# Altium footprint library Connector.PcbLib: 159 footprints (part 8 of 10)
Each footprint in its own frame and in the unit in brackets; x right, y up, seen from the top. Pads: shape width x height; smd on the part's side, far side on the other; paste and mask are expansions set on the pad; w line width, h text height; cw(c..) or ccw(c..) is an arc to the next point about the centre after c.
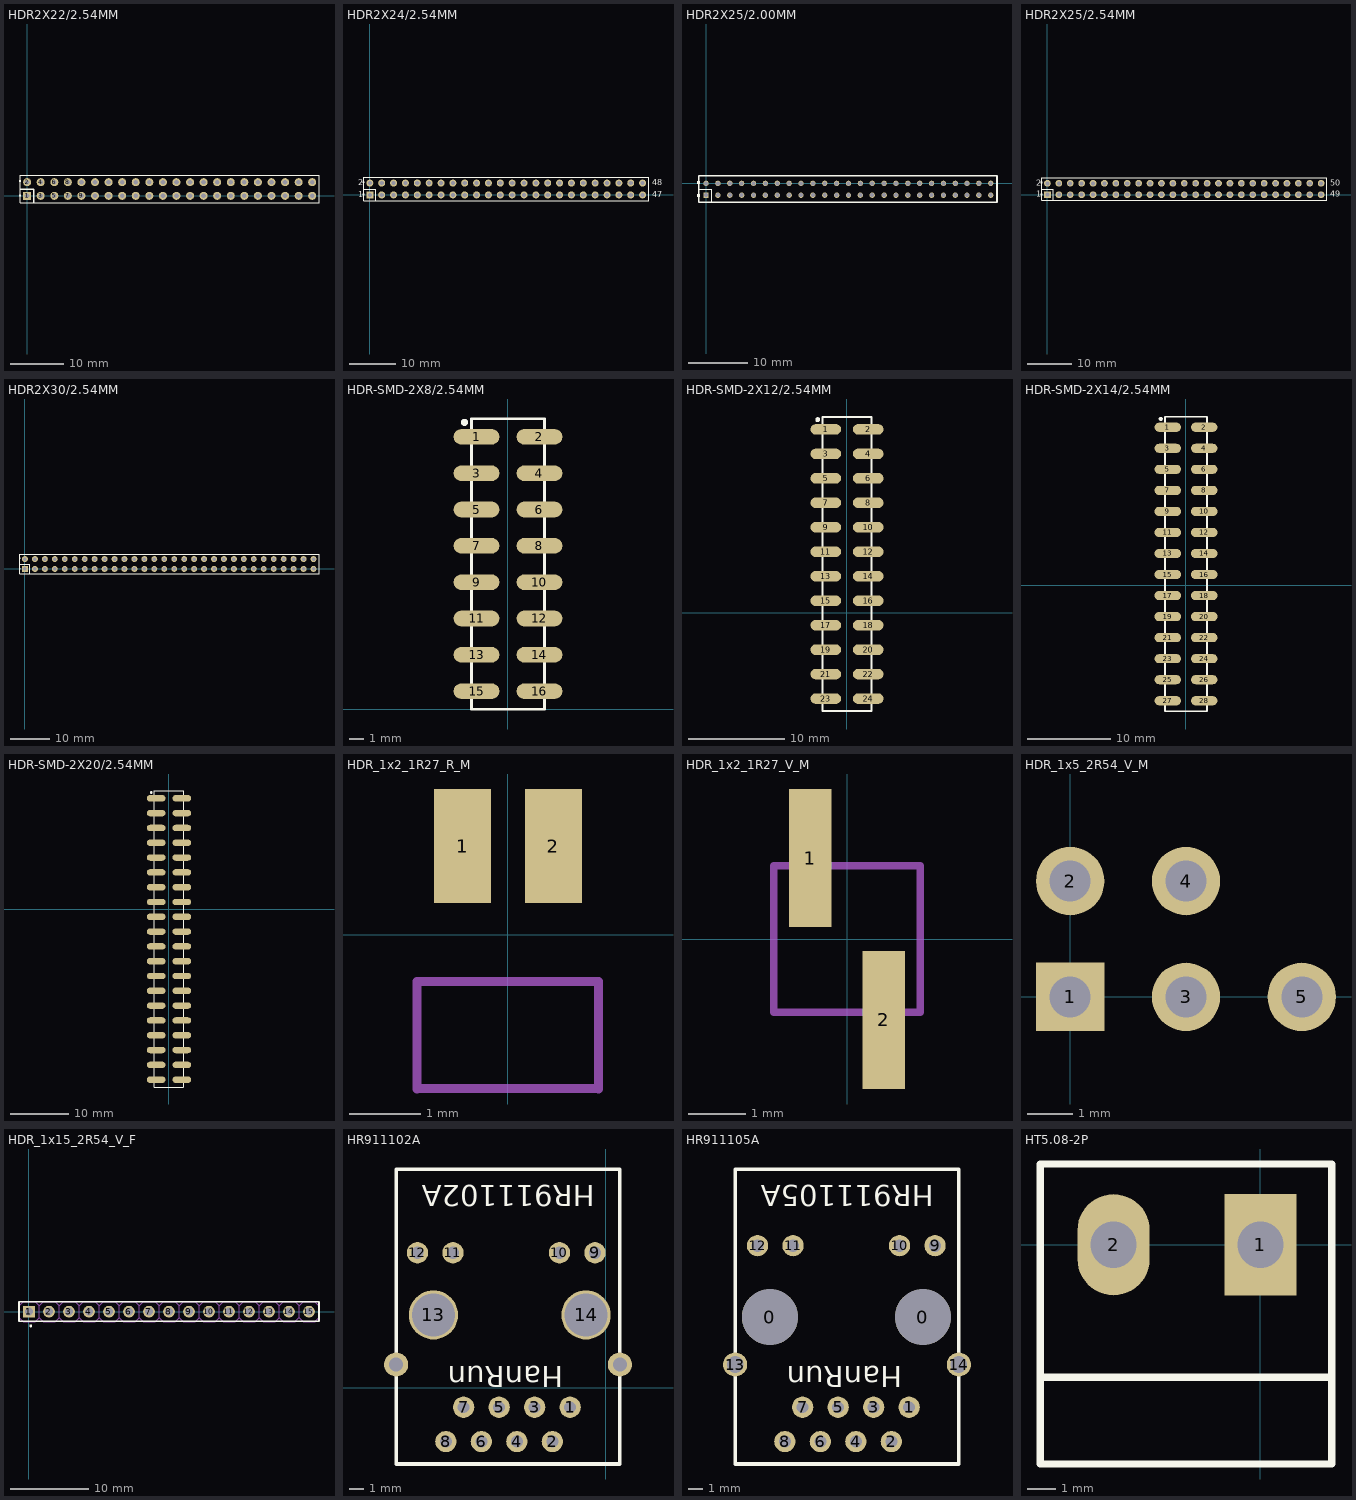
[diagram p7: the footprints below, top view; thin cyan lines are the x and y axes]

## HDR2X22/2.54MM [mm] "Connector; Header; 22x2 Position"
pads (44):
  rect 1.5x1.5 hole 0.9: 1(0,0)
  round 1.5 hole 0.9: 2(0,2.54) 3(2.54,0) 4(2.54,2.54) 5(5.08,0) 6(5.08,2.54) 7(7.62,0) 8(7.62,2.54) 9(10.16,0) 10(10.16,2.54) 11(12.7,0) 12(12.7,2.54) 13(15.24,0) 14(15.24,2.54) 15(17.78,0) 16(17.78,2.54) 17(20.32,0) 18(20.32,2.54) 19(22.86,0) 20(22.86,2.54) 21(25.4,0) 22(25.4,2.54) 23(27.94,0) 24(27.94,2.54) 25(30.48,0) 26(30.48,2.54) 27(33.02,0) 28(33.02,2.54) 29(35.56,0) 30(35.56,2.54) 31(38.1,0) 32(38.1,2.54) 33(40.64,0) 34(40.64,2.54) 35(43.18,0) 36(43.18,2.54) 37(45.72,0) 38(45.72,2.54) 39(48.26,0) 40(48.26,2.54) 41(50.8,0) 42(50.8,2.54) 43(53.34,0) 44(53.34,2.54)
Top Overlay:
  rectangle: -1.524,-0.127 -1.143,0.254
  rectangle: -1.524,2.54 -1.143,2.921
  lines w0.2: -1.27,-1.27 54.61,-1.27 54.61,3.81 -1.27,3.81 -1.27,-1.27
  lines w0.254: -1.27,1.27 1.27,1.27 1.27,-1.27

## HDR2X24/2.54MM [mm] "Connector; Header; 24x2 Position"
pads (48):
  rect 1.5x1.5 hole 0.9: 1(0,0)
  round 1.5 hole 0.9: 2(0,2.54) 3(2.54,0) 4(2.54,2.54) 5(5.08,0) 6(5.08,2.54) 7(7.62,0) 8(7.62,2.54) 9(10.16,0) 10(10.16,2.54) 11(12.7,0) 12(12.7,2.54) 13(15.24,0) 14(15.24,2.54) 15(17.78,0) 16(17.78,2.54) 17(20.32,0) 18(20.32,2.54) 19(22.86,0) 20(22.86,2.54) 21(25.4,0) 22(25.4,2.54) 23(27.94,0) 24(27.94,2.54) 25(30.48,0) 26(30.48,2.54) 27(33.02,0) 28(33.02,2.54) 29(35.56,0) 30(35.56,2.54) 31(38.1,0) 32(38.1,2.54) 33(40.64,0) 34(40.64,2.54) 35(43.18,0) 36(43.18,2.54) 37(45.72,0) 38(45.72,2.54) 39(48.26,0) 40(48.26,2.54) 41(50.8,0) 42(50.8,2.54) 43(53.34,0) 44(53.34,2.54) 45(55.88,0) 46(55.88,2.54) 47(58.42,0) 48(58.42,2.54)
Top Overlay:
  rectangle: -1.524,2.54 -1.143,2.921
  rectangle: -1.524,-0.127 -1.143,0.254
  lines w0.2: -1.27,-1.27 59.69,-1.27 59.69,3.81 -1.27,3.81 -1.27,-1.27
  lines w0.254: -1.27,1.27 1.27,1.27 1.27,-1.27
  text "2" at -2.54,2.032 h1.27
  text "1" at -2.54,-0.508 h1.27
  text "48" at 60.452,2.032 h1.27
  text "47" at 60.452,-0.508 h1.27

## HDR2X25/2.00MM [mm]
pads (50):
  rect 0.9x0.9 hole 0.67 paste+0 mask+0.102: 1(0,-2)
  round 0.9 hole 0.67 paste+0 mask+0.102: 2(0,0) 3(2,-2) 4(2,0) 5(4,-2) 6(4,0) 7(6,-2) 8(6,0) 9(8,-2) 10(8,0) 11(10,-2) 12(10,0) 13(12,-2) 14(12,0) 15(14,-2) 16(14,0) 17(16,-2) 18(16,0) 19(18,-2) 20(18,0) 21(20,-2) 22(20,0) 23(22,-2) 24(22,0) 25(24,-2) 26(24,0) 27(26,-2) 28(26,0) 29(28,-2) 30(28,0) 31(30,-2) 32(30,0) 33(32,-2) 34(32,0) 35(34,-2) 36(34,0) 37(36,-2) 38(36,0) 39(38,-2) 40(38,0) 41(40,-2) 42(40,0) 43(42,-2) 44(42,0) 45(43.969,-2) 46(43.969,0) 47(45.969,-2) 48(45.969,0) 49(47.969,-2) 50(47.969,0)
Top Overlay:
  rectangle: -1.524,-2.286 -1.041,-1.803
  rectangle: -1.524,-0.127 -1.041,0.356
  lines w0.152: -1.245,-0.965 0.94,-0.965 0.965,-0.991 0.965,-3.15
  lines w0.254: -1.27,-3.175 49.022,-3.175 49.022,1.27 -1.27,1.27 -1.27,-3.175

## HDR2X25/2.54MM [mm] "Connector; Header; 25x2 Position"
pads (50):
  rect 1.5x1.5 hole 0.9: 1(0,0)
  round 1.5 hole 0.9: 2(0,2.54) 3(2.54,0) 4(2.54,2.54) 5(5.08,0) 6(5.08,2.54) 7(7.62,0) 8(7.62,2.54) 9(10.16,0) 10(10.16,2.54) 11(12.7,0) 12(12.7,2.54) 13(15.24,0) 14(15.24,2.54) 15(17.78,0) 16(17.78,2.54) 17(20.32,0) 18(20.32,2.54) 19(22.86,0) 20(22.86,2.54) 21(25.4,0) 22(25.4,2.54) 23(27.94,0) 24(27.94,2.54) 25(30.48,0) 26(30.48,2.54) 27(33.02,0) 28(33.02,2.54) 29(35.56,0) 30(35.56,2.54) 31(38.1,0) 32(38.1,2.54) 33(40.64,0) 34(40.64,2.54) 35(43.18,0) 36(43.18,2.54) 37(45.72,0) 38(45.72,2.54) 39(48.26,0) 40(48.26,2.54) 41(50.8,0) 42(50.8,2.54) 43(53.34,0) 44(53.34,2.54) 45(55.88,0) 46(55.88,2.54) 47(58.42,0) 48(58.42,2.54) 49(60.96,0) 50(60.96,2.54)
Top Overlay:
  rectangle: -1.524,-0.127 -1.143,0.254
  rectangle: -1.524,2.54 -1.143,2.921
  lines w0.2: -1.27,-1.27 -1.27,3.81 62.23,3.81 62.23,-1.27 -1.27,-1.27
  lines w0.254: -1.27,1.27 1.27,1.27 1.27,-1.27
  text "2" at -2.54,2.032 h1.27
  text "1" at -2.54,-0.508 h1.27
  text "49" at 62.992,-0.508 h1.27
  text "50" at 62.992,2.032 h1.27

## HDR2X30/2.54MM [mm] "Connector; Header; 30x2 Position"
pads (60):
  rect 1.5x1.5 hole 0.9: 1(0,0)
  round 1.5 hole 0.9: 2(0,2.54) 3(2.54,0) 4(2.54,2.54) 5(5.08,0) 6(5.08,2.54) 7(7.62,0) 8(7.62,2.54) 9(10.16,0) 10(10.16,2.54) 11(12.7,0) 12(12.7,2.54) 13(15.24,0) 14(15.24,2.54) 15(17.78,0) 16(17.78,2.54) 17(20.32,0) 18(20.32,2.54) 19(22.86,0) 20(22.86,2.54) 21(25.4,0) 22(25.4,2.54) 23(27.94,0) 24(27.94,2.54) 25(30.48,0) 26(30.48,2.54) 27(33.02,0) 28(33.02,2.54) 29(35.56,0) 30(35.56,2.54) 31(38.1,0) 32(38.1,2.54) 33(40.64,0) 34(40.64,2.54) 35(43.18,0) 36(43.18,2.54) 37(45.72,0) 38(45.72,2.54) 39(48.26,0) 40(48.26,2.54) 41(50.8,0) 42(50.8,2.54) 43(53.34,0) 44(53.34,2.54) 45(55.88,0) 46(55.88,2.54) 47(58.42,0) 48(58.42,2.54) 49(60.96,0) 50(60.96,2.54) 51(63.5,0) 52(63.5,2.54) 53(66.04,0) 54(66.04,2.54) 55(68.58,0) 56(68.58,2.54) 57(71.12,0) 58(71.12,2.54) 59(73.66,0) 60(73.66,2.54)
Top Overlay:
  rectangle: -1.524,-0.127 -1.143,0.254
  rectangle: -1.524,2.54 -1.143,2.921
  lines w0.2: -1.27,-1.27 -1.27,3.81 75.06,3.81 75.06,-1.27 -1.27,-1.27
  lines w0.254: -1.27,1.27 1.27,1.27 1.27,-1.27
Bottom Overlay:
  text "1" at -55.88,-0.508 h1.27

## HDR-SMD-2X8/2.54MM [mm] "Pin Header Dual Row SMT Type"
pads (16):
  oval 3.2x1.1 smd: 1(-2.2,19.05) 2(2.2,19.05) 3(-2.2,16.51) 4(2.2,16.51) 5(-2.2,13.97) 6(2.2,13.97) 7(-2.2,11.43) 8(2.2,11.43) 9(-2.2,8.89) 10(2.2,8.89) 11(-2.2,6.35) 12(2.2,6.35) 13(-2.2,3.81) 14(2.2,3.81) 15(-2.2,1.27) 16(2.2,1.27)
Top Overlay:
  circle w0.25: c-3.046,20.066 r0.125
  lines w0.2: 2.413,0 -2.54,0 -2.54,20.32 2.54,20.32 2.54,0

## HDR-SMD-2X12/2.54MM [mm] "Pin Header Dual Row SMT Type"
pads (24):
  oval 3.2x1.1 smd: 1(-2.2,19.05) 2(2.2,19.05) 3(-2.2,16.51) 4(2.2,16.51) 5(-2.2,13.97) 6(2.2,13.97) 7(-2.2,11.43) 8(2.2,11.43) 9(-2.2,8.89) 10(2.2,8.89) 11(-2.2,6.35) 12(2.2,6.35) 13(-2.2,3.81) 14(2.2,3.81) 15(-2.2,1.27) 16(2.2,1.27) 17(-2.2,-1.27) 18(2.2,-1.27) 19(-2.2,-3.81) 20(2.2,-3.81) 21(-2.2,-6.35) 22(2.2,-6.35) 23(-2.2,-8.89) 24(2.2,-8.89)
Top Overlay:
  circle w0.25: c-3.046,20.066 r0.125
  lines w0.2: -2.54,-10.16 2.54,-10.16 2.54,20.32 -2.54,20.32 -2.54,-10.16

## HDR-SMD-2X14/2.54MM [mm] "Pin Header Dual Row SMT Type"
pads (28):
  oval 3.2x1.1 smd: 1(-2.2,19.05) 2(2.2,19.05) 3(-2.2,16.51) 4(2.2,16.51) 5(-2.2,13.97) 6(2.2,13.97) 7(-2.2,11.43) 8(2.2,11.43) 9(-2.2,8.89) 10(2.2,8.89) 11(-2.2,6.35) 12(2.2,6.35) 13(-2.2,3.81) 14(2.2,3.81) 15(-2.2,1.27) 16(2.2,1.27) 17(-2.2,-1.27) 18(2.2,-1.27) 19(-2.2,-3.81) 20(2.2,-3.81) 21(-2.2,-6.35) 22(2.2,-6.35) 23(-2.2,-8.89) 24(2.2,-8.89) 25(-2.2,-11.43) 26(2.2,-11.43) 27(-2.2,-13.97) 28(2.2,-13.97)
Top Overlay:
  circle w0.25: c-3.046,20.066 r0.125
  lines w0.2: -2.54,-15.24 2.54,-15.24 2.54,20.32 -2.54,20.32 -2.54,-15.24

## HDR-SMD-2X20/2.54MM [mm] "Pin Header Dual Row SMT Type"
pads (40):
  oval 3.2x1.1 smd: 1(-2.2,19.05) 2(2.2,19.05) 3(-2.2,16.51) 4(2.2,16.51) 5(-2.2,13.97) 6(2.2,13.97) 7(-2.2,11.43) 8(2.2,11.43) 9(-2.2,8.89) 10(2.2,8.89) 11(-2.2,6.35) 12(2.2,6.35) 13(-2.2,3.81) 14(2.2,3.81) 15(-2.2,1.27) 16(2.2,1.27) 17(-2.2,-1.27) 18(2.2,-1.27) 19(-2.2,-3.81) 20(2.2,-3.81) 21(-2.2,-6.35) 22(2.2,-6.35) 23(-2.2,-8.89) 24(2.2,-8.89) 25(-2.2,-11.43) 26(2.2,-11.43) 27(-2.2,-13.97) 28(2.2,-13.97) 29(-2.2,-16.51) 30(2.2,-16.51) 31(-2.2,-19.05) 32(2.2,-19.05) 33(-2.2,-21.59) 34(2.2,-21.59) 35(-2.2,-24.13) 36(2.2,-24.13) 37(-2.2,-26.67) 38(2.2,-26.67) 39(-2.2,-29.21) 40(2.2,-29.21)
Top Overlay:
  circle w0.25: c-3.046,20.066 r0.125
  lines w0.2: 2.413,-30.48 -2.54,-30.48 -2.54,-10.16 -2.54,20.32 2.54,20.32 2.54,-10.16 2.54,-30.48

## HDR_1x2_1R27_R_M [mm] "Two pins header ,1.27mm pitch, DIP"
height 2.54
pads (2):
  rect 0.8x1.6 smd: 1(-0.635,1.245) 2(0.64,1.245)
Mechanical 13:
  lines w0.127: -1.27,-2.159 -1.27,-0.65 1.27,-0.65 1.27,-2.159 ; -1.27,-2.15 1.27,-2.15
3D body: height 0.4, standoff 0, extent 0.435,0.181 0.843,1.422
3D body: height 0.4, standoff 0, extent -0.84,0.181 -0.432,1.422
3D body: height 1.47, standoff 1.07, extent 0.432,-4.724 0.838,0.2
3D body: height 2.54, standoff 0, extent -1.27,-2.134 1.27,-0.65
3D body: height 1.47, standoff 1.07, extent -0.84,-4.724 -0.432,0.2
3D body: height 1.27, standoff 0, extent -0.84,-0.2 -0.44,0.2
3D body: height 1.27, standoff 0, extent 0.44,-0.2 0.84,0.2

## HDR_1x2_1R27_V_M [mm] "Two pins header ,1.27mm pitch, SMD"
height 6
pads (2):
  rect 0.74x2.4 smd: 1(-0.635,1.405) 2(0.635,-1.405)
Mechanical 13:
  lines w0.127: -1.27,-1.27 1.27,-1.27 1.27,1.27 -1.27,1.27 -1.27,-1.27
3D body: height 5.54, standoff -0.66, extent 0.38,-0.25 0.88,0.25
3D body: height 2.54, standoff 0, extent -1.27,-1.27 1.27,1.27
3D body: height 5.54, standoff -0.66, extent -0.89,-0.25 -0.39,0.25

## HDR_1x5_2R54_V_M [mm] "Header IDC, 2 x 4 Pin Vertical 2.54mm Pitch (Non-Boxed, Male)"
pads (5):
  rect 1.5x1.5 hole 0.9: 1(0,0)
  round 1.5 hole 0.9: 2(0,2.54) 3(2.54,0) 4(2.54,2.54) 5(5.08,0)

## HDR_1x15_2R54_V_F [mm] "Male Header, Pitch 2.54mm, 15x1 Position, Mated Height 6mm, Tail Length 3mm"
height 6
pads (15):
  rect 1.5x1.5 hole 1.02: 1(0,0)
  round 1.5 hole 1.02: 2(2.54,0) 3(5.08,0) 4(7.62,0) 5(10.16,0) 6(12.7,0) 7(15.24,0) 8(17.78,0) 9(20.32,0) 10(22.86,0) 11(25.4,0) 12(27.94,0) 13(30.48,0) 14(33.02,0) 15(35.56,0)
Top Overlay:
  circle w0.25: c0.229,-1.796 r0.059
  lines w0.2: -1.27,-1.194 -1.27,1.27 36.83,1.27 36.83,-1.194 -1.27,-1.194
Mechanical 13:
  lines w0.025: 1.271,-0.762 1.779,-1.27 3.304,-1.27 3.811,-0.762 ; 1.272,-0.762 1.272,0.762 ; 1.271,-0.762 0.763,-1.27 -0.76,-1.27 -1.269,-0.762 -1.268,0.762 -0.76,1.27 0.764,1.27 1.271,0.762 ; 1.272,-0.762 1.272,0.762 ; 1.272,0.762 1.78,1.27 3.304,1.27 3.811,0.762 ; 3.811,-0.762 4.319,-1.27 5.844,-1.27 6.351,-0.762 ; 3.812,-0.762 3.812,0.762 ; 3.812,-0.762 3.812,0.762 ; 3.812,0.762 4.32,1.27 5.844,1.27 6.351,0.762 ; 6.351,-0.762 6.859,-1.27 8.384,-1.27 8.891,-0.762 ; 6.352,-0.762 6.352,0.762 ; 6.352,-0.762 6.352,0.762 ; 6.352,0.762 6.86,1.27 8.384,1.27 8.891,0.762 ; 8.891,-0.762 9.399,-1.27 10.924,-1.27 11.431,-0.762 ; 8.892,-0.762 8.892,0.762 ; 8.892,-0.762 8.892,0.762 ; 8.892,0.762 9.4,1.27 10.924,1.27 11.431,0.762 ; 11.431,-0.762 11.939,-1.27 13.464,-1.27 13.971,-0.762 ; 11.432,-0.762 11.432,0.762 ; 11.432,-0.762 11.432,0.762 ; 11.432,0.762 11.94,1.27 13.464,1.27 13.971,0.762 ; 13.971,-0.762 14.479,-1.27 16.004,-1.27 16.511,-0.762 ; 13.972,-0.762 13.972,0.762 ; 13.972,-0.762 13.972,0.762 ; 13.972,0.762 14.48,1.27 16.004,1.27 16.511,0.762 ; 16.511,-0.762 17.019,-1.27 18.544,-1.27 19.051,-0.762 ; 16.512,-0.762 16.512,0.762 ; 16.512,-0.762 16.512,0.762 ; 16.512,0.762 17.02,1.27 18.544,1.27 19.051,0.762 ; 19.051,-0.762 19.559,-1.27 21.084,-1.27 21.591,-0.762 ; 19.052,-0.762 19.052,0.762 ; 19.052,-0.762 19.052,0.762 ; 19.052,0.762 19.56,1.27 21.084,1.27 21.591,0.762 ; 21.591,-0.762 22.099,-1.27 23.624,-1.27 24.131,-0.762 ; 21.592,-0.762 21.592,0.762 ; 21.592,-0.762 21.592,0.762 ; 21.592,0.762 22.1,1.27 23.624,1.27 24.131,0.762 ; 24.131,-0.762 24.639,-1.27 26.164,-1.27 26.671,-0.762 ; 24.132,-0.762 24.132,0.762 ; 24.132,-0.762 24.132,0.762 ; 24.132,0.762 24.64,1.27 26.164,1.27 26.671,0.762 ; 26.671,-0.762 27.179,-1.27 28.704,-1.27 29.211,-0.762 ; 26.672,-0.762 26.672,0.762 ; 26.672,-0.762 26.672,0.762 ; 26.672,0.762 27.18,1.27 28.704,1.27 29.211,0.762 ; 29.211,-0.762 29.719,-1.27 31.244,-1.27 31.751,-0.762 ; 29.212,-0.762 29.212,0.762 ; 29.212,-0.762 29.212,0.762 ; 29.212,0.762 29.72,1.27 31.244,1.27 31.751,0.762 ; 31.751,-0.762 32.259,-1.27 33.784,-1.27 34.291,-0.762 ; 31.752,-0.762 31.752,0.762 ; 31.752,-0.762 31.752,0.762 ; 31.752,0.762 32.26,1.27 33.784,1.27 34.291,0.762 ; 34.291,-0.762 34.799,-1.27 36.324,-1.27 36.831,-0.762 36.832,0.762 36.323,1.27 34.8,1.27 34.292,0.762 ; 34.292,-0.762 34.292,0.762 ; 34.292,-0.762 34.292,0.762
3D body: height 12.7, standoff -2.54, extent 35.211,-0.349 35.909,0.349
3D body: height 2.54, standoff 0, extent 34.292,-1.27 36.832,1.27
3D body: height 12.7, standoff -2.54, extent 32.671,-0.349 33.369,0.349
3D body: height 2.54, standoff 0, extent 31.752,-1.27 34.292,1.27
3D body: height 12.7, standoff -2.54, extent 30.131,-0.349 30.829,0.349
3D body: height 2.54, standoff 0, extent 29.212,-1.27 31.752,1.27
3D body: height 12.7, standoff -2.54, extent 27.591,-0.349 28.289,0.349
3D body: height 2.54, standoff 0, extent 26.672,-1.27 29.212,1.27
3D body: height 12.7, standoff -2.54, extent 25.051,-0.349 25.749,0.349
3D body: height 2.54, standoff 0, extent 24.132,-1.27 26.672,1.27
3D body: height 12.7, standoff -2.54, extent 22.511,-0.349 23.209,0.349
3D body: height 2.54, standoff 0, extent 21.592,-1.27 24.132,1.27
3D body: height 12.7, standoff -2.54, extent 19.971,-0.349 20.669,0.349
3D body: height 2.54, standoff 0, extent 19.052,-1.27 21.592,1.27
3D body: height 12.7, standoff -2.54, extent 17.431,-0.349 18.129,0.349
3D body: height 2.54, standoff 0, extent 16.512,-1.27 19.052,1.27
3D body: height 12.7, standoff -2.54, extent 14.891,-0.349 15.589,0.349
3D body: height 2.54, standoff 0, extent 13.972,-1.27 16.512,1.27
3D body: height 12.7, standoff -2.54, extent 12.351,-0.349 13.049,0.349
3D body: height 2.54, standoff 0, extent 11.432,-1.27 13.972,1.27
3D body: height 12.7, standoff -2.54, extent 9.811,-0.349 10.509,0.349
3D body: height 2.54, standoff 0, extent 8.892,-1.27 11.432,1.27
3D body: height 12.7, standoff -2.54, extent 7.271,-0.349 7.969,0.349
3D body: height 2.54, standoff 0, extent 6.352,-1.27 8.892,1.27
3D body: height 12.7, standoff -2.54, extent 4.731,-0.349 5.429,0.349
3D body: height 2.54, standoff 0, extent 3.812,-1.27 6.352,1.27
3D body: height 12.7, standoff -2.54, extent 2.191,-0.349 2.889,0.349
3D body: height 2.54, standoff 0, extent 1.272,-1.27 3.812,1.27
3D body: height 12.7, standoff -2.54, extent -0.349,-0.349 0.349,0.349
3D body: height 2.54, standoff 0, extent -1.268,-1.27 1.272,1.27

## HR911102A [mil] "HanRun"
pads (16):
  round 60 hole 33.46: 1(-100,-55) 2(-150,-151.81) 3(-200,-55) 4(-250,-151.81) 5(-300,-55) 6(-350,-151.81) 7(-400,-55) 8(-450,-151.81)
  round 60 hole 34.65: 9(-30,380) 10(-130,380) 11(-430,380) 12(-530,380)
  round 138.74 hole 120.55: 13(-485,205) 14(-55,205)
  round 67.87 hole 39.37: ""(-590,65) ""(40,65)
Top Overlay:
  lines w10: -590,-215 -590,615 40,615 40,-215 -590,-215
  text "HR911102A" at -31,570 h60
  text "HanRun" at -120,60 h60

## HR911105A [mil] "Rev-B,HanRun RJ45 20120615"
height 551.18
pads (16):
  round 157.48 hole 157.48: 0(-804,951) 0(-373,951)
  round 60 hole 33.46: 1(-412,697) 2(-462,600.19) 3(-512,697) 4(-562,600.19) 5(-612,697) 6(-662,600.19) 7(-712,697) 8(-762,600.19)
  round 60 hole 34.65: 9(-339,1152) 10(-439,1152) 11(-739,1152) 12(-839,1152)
  round 67.87 hole 47.24: 13(-902,817) 14(-272,817)
Top Overlay:
  lines w10: -902,537 -902,1367 -272,1367 -272,537 -902,537
  text "HR911105A" at -343,1322 h60
  text "HanRun" at -432,812 h60

## HT5.08-2P [mm]
pads (2):
  rect 2.5x3.5 hole 1.6: 1(0,0)
  oval 2.5x3.5 hole 1.6: 2(-5.08,0)
Top Overlay:
  lines w0.254: -7.625,-4.318 -7.625,-7.59 2.475,-7.59 2.475,-4.191 ; -7.625,-4.589 -7.625,2.794 2.475,2.794 2.475,-4.589 -7.625,-4.589